# Altium schematic symbol library PC-135R_RC-135.SchLib: 1 symbol
Pins are listed as number, name and electrical type; pins without a type are passive.

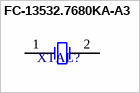
[diagram p0: symbol FC-13532.7680KA-A3]

## FC-13532.7680KA-A3
designator XTAL?, comment FC-135 32.7680KA-A3  (value not drawn)
FC-135 Series 32.768 KHz ±20 ppm 12.5 pF -40 to +85°C Surface Mount Crystal; manufacturer: epson; Octopart URL: https://octopart.com/fc-135+32.7680ka-a3-epson-39545807; Manufacturer Part Number: FC-135 32.7680KA-A3; Case/Package: FC-135
footprint FC-135R$2F$FC-135
pins: 1 X1, 2 X2